# Altium schematic symbol library JMP1X2.SchLib: 1 symbol
Pins are listed as number, name and electrical type; pins without a type are passive.

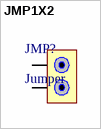
[diagram p0: symbol JMP1X2]

## JMP1X2
designator JMP?, comment Jumper
Standard 2 Pin Jumper, 100mil spacing
footprint JMP1X2 (Footprint not found)
pins: 1, 2